# Altium footprint library AltiumDesigner.PcbLib: 151 footprints (part 9 of 10)
Each footprint in its own frame and in the unit in brackets; x right, y up, seen from the top. Pads: shape width x height; smd on the part's side, far side on the other; paste and mask are expansions set on the pad; w line width, h text height; cw(c..) or ccw(c..) is an arc to the next point about the centre after c.
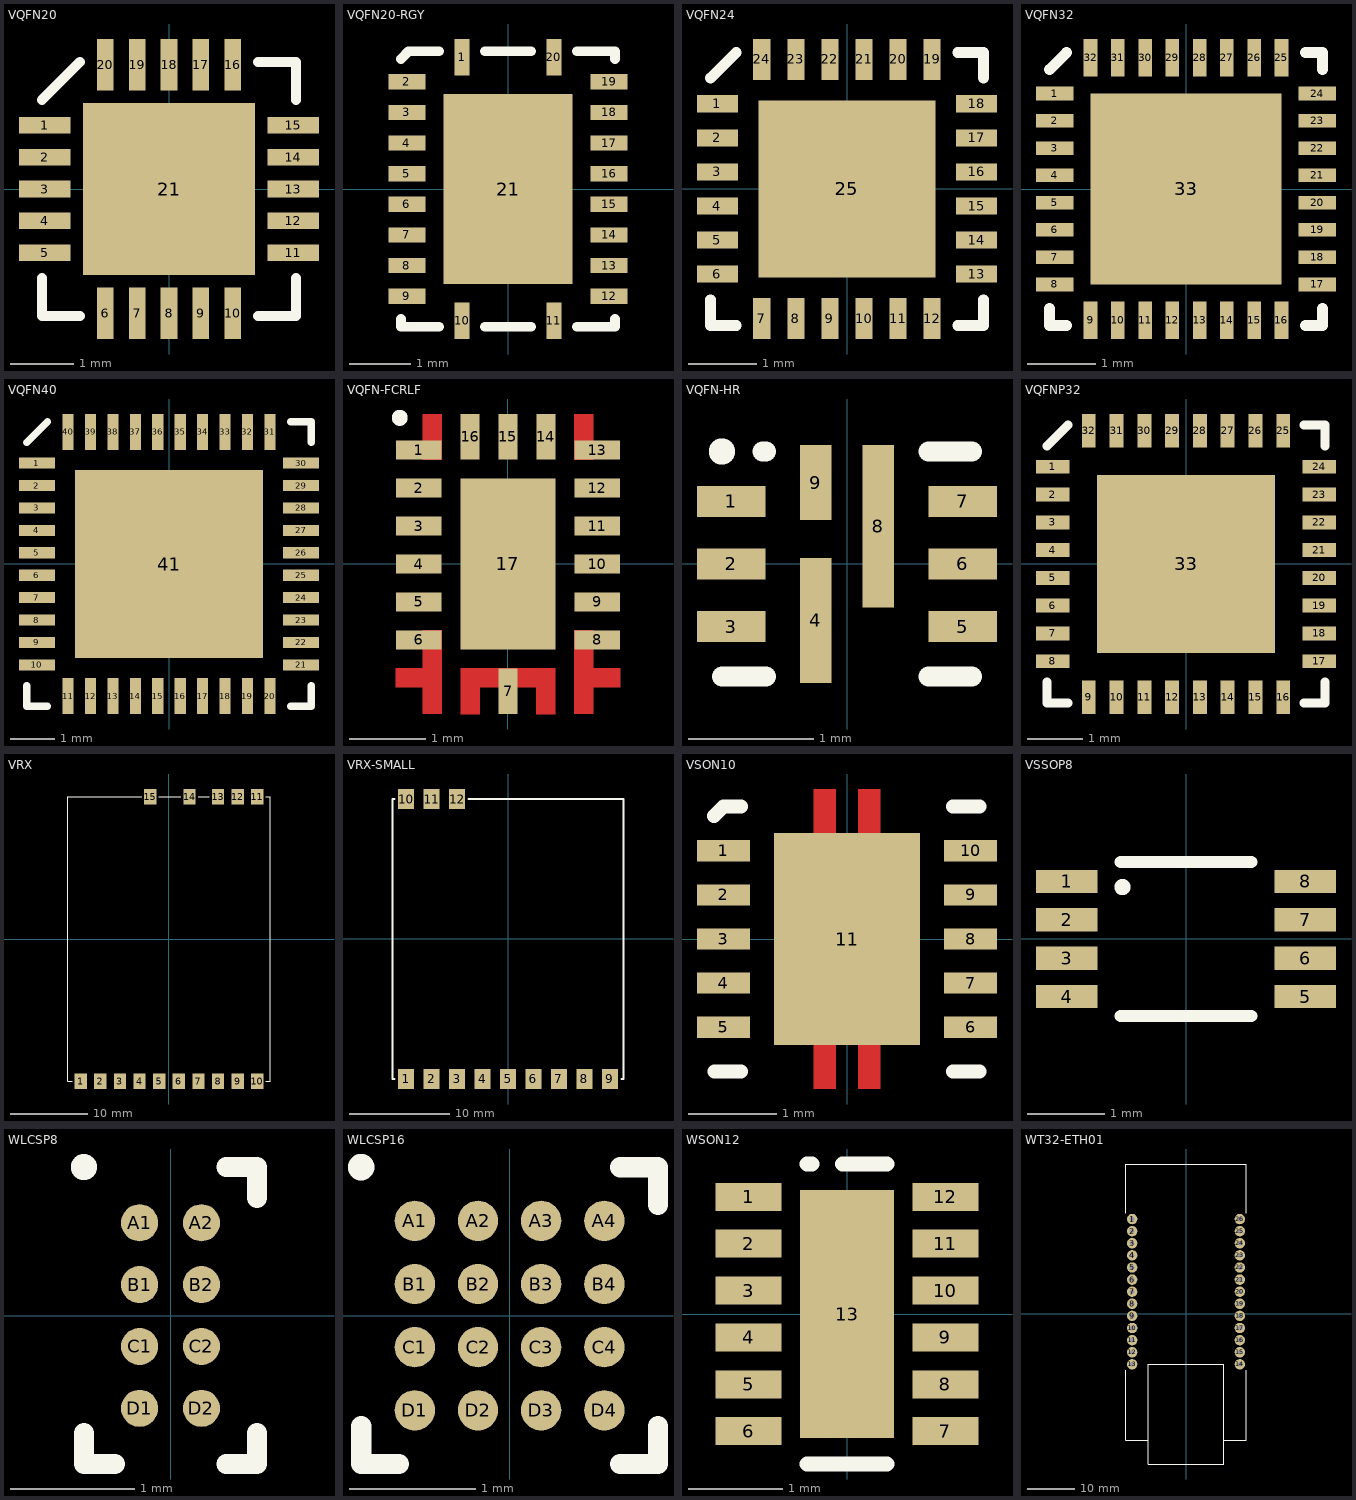
[diagram p8: the footprints below, top view; thin cyan lines are the x and y axes]

## VQFN20 [mm]
pads (21):
  rect 0.81x0.26 smd: 1(-1.955,1) 2(-1.955,0.5) 3(-1.955,0) 4(-1.955,-0.5) 5(-1.955,-1) 11(1.955,-1) 12(1.955,-0.5) 13(1.955,0) 14(1.955,0.5) 15(1.955,1)
  rect 0.26x0.81 smd: 6(-1,-1.955) 7(-0.5,-1.955) 8(0,-1.955) 9(0.5,-1.955) 10(1,-1.955) 16(1,1.955) 17(0.5,1.955) 18(0,1.955) 19(-0.5,1.955) 20(-1,1.955)
  rect 2.7x2.7 smd paste-2: 21(0,0)
Top Overlay:
  lines w0.16: -2,-1.4 -2,-2 -1.4,-2 ; -2,1.4 -1.4,2 ; 1.4,-2 2,-2 2,-1.4 ; 1.4,2 2,2 2,1.4
Top Paste:
  region: -1.09,1.09 -0.13,1.09 -0.13,0.13 -1.09,0.13
  region: 0.13,1.09 1.09,1.09 1.09,0.13 0.13,0.13
  region: 0.13,-0.13 1.09,-0.13 1.09,-1.09 0.13,-1.09
  region: -1.09,-0.13 -0.13,-0.13 -0.13,-1.09 -1.09,-1.09

## VQFN20-RGY [mm]
pads (21):
  rect 0.25x0.6 smd: 1(-0.75,2.15) 10(-0.75,-2.15) 11(0.75,-2.15) 20(0.75,2.15)
  rect 0.6x0.25 smd: 2(-1.65,1.75) 3(-1.65,1.25) 4(-1.65,0.75) 5(-1.65,0.25) 6(-1.65,-0.25) 7(-1.65,-0.75) 8(-1.65,-1.25) 9(-1.65,-1.75) 12(1.65,-1.75) 13(1.65,-1.25) 14(1.65,-0.75) 15(1.65,-0.25) 16(1.65,0.25) 17(1.65,0.75) 18(1.65,1.25) 19(1.65,1.75)
  rect 2.1x3.1 smd paste-2: 21(0,0)
Top Overlay:
  lines w0.16: -1.75,-2.125 -1.75,-2.25 -1.125,-2.25 ; -1.75,2.125 -1.625,2.25 -1.125,2.25 ; -0.375,-2.25 0.375,-2.25 ; -0.375,2.25 0.375,2.25 ; 1.125,-2.25 1.75,-2.25 1.75,-2.125 ; 1.125,2.25 1.75,2.25 1.75,2.125
Top Paste:
  region: 0.125,1.25 0.875,1.25 0.875,0.25 0.125,0.25
  region: -0.875,-0.25 -0.125,-0.25 -0.125,-1.25 -0.875,-1.25
  region: -0.875,1.25 -0.125,1.25 -0.125,0.25 -0.875,0.25
  region: 0.125,-0.25 0.875,-0.25 0.875,-1.25 0.125,-1.25

## VQFN24 [mm]
pads (25):
  rect 0.6x0.25 smd: 1(-1.9,1.25) 2(-1.9,0.75) 3(-1.9,0.25) 4(-1.9,-0.25) 5(-1.9,-0.75) 6(-1.9,-1.25) 13(1.9,-1.25) 14(1.9,-0.75) 15(1.9,-0.25) 16(1.9,0.25) 17(1.9,0.75) 18(1.9,1.25)
  rect 0.25x0.6 smd: 7(-1.25,-1.9) 8(-0.75,-1.9) 9(-0.25,-1.9) 10(0.25,-1.9) 11(0.75,-1.9) 12(1.25,-1.9) 19(1.25,1.9) 20(0.75,1.9) 21(0.25,1.9) 22(-0.25,1.9) 23(-0.75,1.9) 24(-1.25,1.9)
  rect 2.6x2.6 smd paste-5: 25(0,0)
Top Overlay:
  lines w0.16: -2,-1.625 -2,-2 -1.625,-2 ; -2,1.625 -1.625,2 ; 1.625,-2 2,-2 2,-1.625 ; 1.625,2 2,2 2,1.625
Top Paste:
  region: 0.2,1.2 1.2,1.2 1.2,0.2 0.2,0.2
  region: 0.2,-0.2 1.2,-0.2 1.2,-1.2 0.2,-1.2
  region: -1.2,-0.2 -0.2,-0.2 -0.2,-1.2 -1.2,-1.2
  region: -1.2,1.2 -0.2,1.2 -0.2,0.2 -1.2,0.2

## VQFN32 [mm]
pads (33):
  rect 0.55x0.2 smd: 1(-1.925,1.4) 2(-1.925,1) 3(-1.925,0.6) 4(-1.925,0.2) 5(-1.925,-0.2) 6(-1.925,-0.6) 7(-1.925,-1) 8(-1.925,-1.4) 17(1.925,-1.4) 18(1.925,-1) 19(1.925,-0.6) 20(1.925,-0.2) 21(1.925,0.2) 22(1.925,0.6) 23(1.925,1) 24(1.925,1.4)
  rect 0.2x0.55 smd: 9(-1.4,-1.925) 10(-1,-1.925) 11(-0.6,-1.925) 12(-0.2,-1.925) 13(0.2,-1.925) 14(0.6,-1.925) 15(1,-1.925) 16(1.4,-1.925) 25(1.4,1.925) 26(1,1.925) 27(0.6,1.925) 28(0.2,1.925) 29(-0.2,1.925) 30(-0.6,1.925) 31(-1,1.925) 32(-1.4,1.925)
  rect 2.8x2.8 smd paste-2: 33(0,0)
Top Overlay:
  lines w0.16: -2,-1.75 -2,-2 -1.75,-2 ; -2,1.75 -1.75,2 ; 1.75,-2 2,-2 2,-1.75 ; 1.75,2 2,2 2,1.75
Top Paste:
  region: 0.196,1.2 1.196,1.2 1.196,0.2 0.196,0.2
  region: 0.196,-0.2 1.196,-0.2 1.196,-1.2 0.196,-1.2
  region: -1.204,-0.2 -0.204,-0.2 -0.204,-1.2 -1.204,-1.2
  region: -1.204,1.2 -0.204,1.2 -0.204,0.2 -1.204,0.2

## VQFN40 [mm]
pads (41):
  rect 0.8x0.25 smd paste+0: 1(-2.95,2.25) 2(-2.95,1.75) 3(-2.95,1.25) 4(-2.95,0.75) 5(-2.95,0.25) 6(-2.95,-0.25) 7(-2.95,-0.75) 8(-2.95,-1.25) 9(-2.95,-1.75) 10(-2.95,-2.25) 21(2.943,-2.25) 22(2.943,-1.75) 23(2.943,-1.25) 24(2.943,-0.75) 25(2.943,-0.25) 26(2.943,0.25) 27(2.943,0.75) 28(2.943,1.25) 29(2.943,1.75) 30(2.943,2.25)
  rect 0.25x0.8 smd paste+0: 11(-2.254,-2.946) 12(-1.754,-2.946) 13(-1.254,-2.946) 14(-0.754,-2.946) 15(-0.254,-2.946) 16(0.246,-2.946) 17(0.746,-2.946) 18(1.246,-2.946) 19(1.746,-2.946) 20(2.246,-2.946) 31(2.246,2.946) 32(1.746,2.946) 33(1.246,2.946) 34(0.746,2.946) 35(0.246,2.946) 36(-0.254,2.946) 37(-0.754,2.946) 38(-1.254,2.946) 39(-1.754,2.946) 40(-2.254,2.946)
  rect 4.2x4.2 smd paste-2.121: 41(-0.004,0)
Top Overlay:
  lines w0.16: -3.179,-2.71 -3.179,-3.175 -2.713,-3.175 ; -3.179,2.71 -2.713,3.175 ; 2.706,-3.175 3.171,-3.175 3.171,-2.71 ; 2.706,3.175 3.171,3.175 3.171,2.71
Top Paste:
  region: -1.907,1.9 -0.907,1.9 -0.907,0.9 -1.907,0.9
  region: -1.907,0.5 -0.907,0.5 -0.907,-0.5 -1.907,-0.5
  region: -0.507,0.5 0.493,0.5 0.493,-0.5 -0.507,-0.5
  region: -0.507,1.9 0.493,1.9 0.493,0.9 -0.507,0.9
  region: 0.893,0.5 1.893,0.5 1.893,-0.5 0.893,-0.5
  region: 0.893,1.9 1.893,1.9 1.893,0.9 0.893,0.9
  region: -1.907,-0.9 -0.907,-0.9 -0.907,-1.9 -1.907,-1.9
  region: -0.507,-0.9 0.493,-0.9 0.493,-1.9 -0.507,-1.9
  region: 0.893,-0.9 1.893,-0.9 1.893,-1.9 0.893,-1.9

## VQFN-FCRLF [mm]
pads (17):
  rect 0.6x0.25 smd: 1(-1.175,1.5) 2(-1.175,1) 3(-1.175,0.5) 4(-1.175,0) 5(-1.175,-0.5) 6(-1.175,-1) 8(1.175,-1) 9(1.175,-0.5) 10(1.175,0) 11(1.175,0.5) 12(1.175,1) 13(1.175,1.5)
  rect 0.25x0.6 smd: 7(0,-1.675) 14(0.5,1.675) 15(0,1.675) 16(-0.5,1.675)
  rect 1.25x2.25 smd paste-1: 17(0,0)
Top Layer:
  region: 1.125,-0.875 0.875,-0.875 0.875,-1.975 1.125,-1.975 1.125,-1.625 1.475,-1.625 1.475,-1.375 1.125,-1.375
  region: -1.125,1.975 -0.875,1.975 -0.875,1.375 -1.125,1.375
  region: -1.125,-0.875 -1.125,-1.375 -1.475,-1.375 -1.475,-1.625 -1.125,-1.625 -1.125,-1.975 -0.875,-1.975 -0.875,-0.875
  region: 0.625,-1.975 0.375,-1.975 0.375,-1.625 -0.375,-1.625 -0.375,-1.975 -0.625,-1.975 -0.625,-1.375 0.625,-1.375
  region: 0.875,1.975 1.125,1.975 1.125,1.375 0.875,1.375
Top Overlay:
  circle w0.16: c-1.425,1.925 r0.025
Top Paste:
  region: 0.875,-1.975 1.125,-1.975 1.125,-1.625 1.475,-1.625 1.475,-1.375 0.875,-1.375
  region: -1.475,-1.375 -1.475,-1.625 -1.125,-1.625 -1.125,-1.975 -0.875,-1.975 -0.875,-1.375
  region: -0.625,-1.375 -0.375,-1.375 -0.375,-1.975 -0.625,-1.975
  region: 0.375,-1.375 0.625,-1.375 0.625,-1.975 0.375,-1.975
  region: -0.35,0.625 0.35,0.625 0.35,-0.625 -0.35,-0.625

## VQFN-HR [mm]
pads (9):
  rect 0.55x0.25 smd: 1(-0.925,0.5) 2(-0.925,0) 3(-0.925,-0.5) 5(0.925,-0.5) 6(0.925,0) 7(0.925,0.5)
  rect 0.25x1 smd: 4(-0.25,-0.45)
  rect 0.25x1.3 smd: 8(0.25,0.3)
  rect 0.25x0.6 smd: 9(-0.25,0.65)
Top Overlay:
  circle w0.16: c-1,0.9 r0.025
  lines w0.16: -1,-0.9 -0.65,-0.9 ; -0.675,0.9 -0.65,0.9 ; 0.65,-0.9 1,-0.9 ; 0.65,0.9 1,0.9

## VQFNP32 [mm]
pads (33):
  rect 0.6x0.25 smd: 1(-2.4,1.75) 2(-2.4,1.25) 3(-2.4,0.75) 4(-2.4,0.25) 5(-2.4,-0.25) 6(-2.4,-0.75) 7(-2.4,-1.25) 8(-2.4,-1.75) 17(2.4,-1.75) 18(2.4,-1.25) 19(2.4,-0.75) 20(2.4,-0.25) 21(2.4,0.25) 22(2.4,0.75) 23(2.4,1.25) 24(2.4,1.75)
  rect 0.25x0.6 smd: 9(-1.75,-2.4) 10(-1.25,-2.4) 11(-0.75,-2.4) 12(-0.25,-2.4) 13(0.25,-2.4) 14(0.75,-2.4) 15(1.25,-2.4) 16(1.75,-2.4) 25(1.75,2.4) 26(1.25,2.4) 27(0.75,2.4) 28(0.25,2.4) 29(-0.25,2.4) 30(-0.75,2.4) 31(-1.25,2.4) 32(-1.75,2.4)
  rect 3.2x3.2 smd paste-2: 33(0,0)
Top Overlay:
  lines w0.16: -2.5,-2.125 -2.5,-2.5 -2.125,-2.5 ; -2.5,2.125 -2.125,2.5 ; 2.125,-2.5 2.5,-2.5 2.5,-2.125 ; 2.125,2.5 2.5,2.5 2.5,2.125
Top Paste:
  region: 0.196,1.2 1.196,1.2 1.196,0.2 0.196,0.2
  region: 0.196,-0.2 1.196,-0.2 1.196,-1.2 0.196,-1.2
  region: -1.204,-0.2 -0.204,-0.2 -0.204,-1.2 -1.204,-1.2
  region: -1.204,1.2 -0.204,1.2 -0.204,0.2 -1.204,0.2

## VRX [mm]
pads (15):
  rect 1.6x2 smd: 1(-11.475,-18.5) 2(-8.925,-18.5) 3(-6.375,-18.5) 4(-3.825,-18.5) 5(-1.275,-18.5) 6(1.275,-18.5) 7(3.825,-18.5) 8(6.375,-18.5) 9(8.925,-18.5) 10(11.475,-18.5) 11(11.475,18.5) 12(8.925,18.5) 13(6.375,18.5) 14(2.675,18.5) 15(-2.425,18.5)
Top Overlay:
  lines w0.16: -12.6,-18.5 -13.15,-18.5 -13.15,18.5 -3.55,18.5 ; -1.3,18.5 1.55,18.5 ; 3.8,18.5 5.25,18.5 ; 12.6,-18.5 13.15,-18.5 13.15,18.5 12.6,18.5

## VRX-SMALL [mm]
pads (12):
  rect 1.6x2 smd: 1(-10.2,-14) 2(-7.65,-14) 3(-5.1,-14) 4(-2.55,-14) 5(0,-14) 6(2.55,-14) 7(5.1,-14) 8(7.65,-14) 9(10.2,-14) 10(-10.2,14) 11(-7.65,14) 12(-5.1,14)
Top Overlay:
  lines w0.16: -11.325,-14 -11.55,-14 -11.55,14 -11.325,14 ; -3.975,14 11.55,14 11.55,-14 11.325,-14

## VSON10 [mm]
pads (11):
  rect 0.6x0.24 smd: 1(-1.4,1) 2(-1.4,0.5) 3(-1.4,0) 4(-1.4,-0.5) 5(-1.4,-1) 6(1.4,-1) 7(1.4,-0.5) 8(1.4,0) 9(1.4,0.5) 10(1.4,1)
  rect 1.65x2.4 smd paste-1: 11(0,0)
Top Layer:
  region: -0.125,-1.7 -0.125,-1.2 0.125,-1.2 0.125,-1.7 0.375,-1.7 0.375,-1.2 -0.375,-1.2 -0.375,-1.7
  region: 0.125,1.7 0.125,1.2 -0.125,1.2 -0.125,1.7 -0.375,1.7 -0.375,1.2 0.375,1.2 0.375,1.7
Top Overlay:
  lines w0.16: -1.506,1.394 -1.4,1.5 -1.2,1.5 ; -1.5,-1.5 -1.2,-1.5 ; 1.2,-1.5 1.5,-1.5 ; 1.2,1.5 1.5,1.5
Top Paste:
  region: -0.475,0.75 0.475,0.75 0.475,-0.75 -0.475,-0.75

## VSSOP8 [mm]
pads (8):
  rect 0.8x0.3 smd: 1(-1.55,0.75) 2(-1.55,0.25) 3(-1.55,-0.25) 4(-1.55,-0.75) 5(1.55,-0.75) 6(1.55,-0.25) 7(1.55,0.25) 8(1.55,0.75)
Top Overlay:
  circle w0.16: c-0.825,0.675 r0.025
  lines w0.16: -0.85,-1 0.85,-1 ; -0.85,1 0.85,1

## WLCSP8 [mm]
pads (8):
  round 0.3 smd: A1(-0.25,0.75) A2(0.25,0.75) B1(-0.25,0.25) B2(0.25,0.25) C1(-0.25,-0.25) C2(0.25,-0.25) D1(-0.25,-0.75) D2(0.25,-0.75)
Top Overlay:
  circle w0.16: c-0.7,1.2 r0.025
  lines w0.16: -0.7,-0.95 -0.7,-1.2 -0.45,-1.2 ; 0.45,-1.2 0.7,-1.2 0.7,-0.95 ; 0.45,1.2 0.7,1.2 0.7,0.95

## WLCSP16 [mm]
pads (16):
  round 0.32 smd: A1(-0.75,0.75) A2(-0.25,0.75) A3(0.25,0.75) A4(0.75,0.75) B1(-0.75,0.25) B2(-0.25,0.25) B3(0.25,0.25) B4(0.75,0.25) C1(-0.75,-0.25) C2(-0.25,-0.25) C3(0.25,-0.25) C4(0.75,-0.25) D1(-0.75,-0.75) D2(-0.25,-0.75) D3(0.25,-0.75) D4(0.75,-0.75)
Top Overlay:
  circle w0.16: c-1.175,1.175 r0.025
  lines w0.16: -1.175,-0.875 -1.175,-1.175 -0.875,-1.175 ; 0.875,-1.175 1.175,-1.175 1.175,-0.875 ; 0.875,1.175 1.175,1.175 1.175,0.875
Top Solder:
  circle w0: c-0.75,0.25 r0.15
  circle w0: c-0.25,0.25 r0.15
  circle w0: c-0.25,0.75 r0.15
  circle w0: c-0.75,0.75 r0.15
  circle w0: c0.75,-0.75 r0.15
  circle w0: c0.25,-0.75 r0.15
  circle w0: c0.75,0.75 r0.15
  circle w0: c0.25,-0.25 r0.15
  circle w0: c0.75,0.25 r0.15
  circle w0: c-0.25,-0.25 r0.15
  circle w0: c0.25,0.25 r0.15
  circle w0: c-0.25,-0.75 r0.15
  circle w0: c0.75,-0.25 r0.15
  circle w0: c-0.75,-0.75 r0.15
  circle w0: c-0.75,-0.25 r0.15
  circle w0: c0.25,0.75 r0.15

## WSON12 [mm]
pads (13):
  rect 0.7x0.3 smd: 1(-1.05,1.25) 2(-1.05,0.75) 3(-1.05,0.25) 4(-1.05,-0.25) 5(-1.05,-0.75) 6(-1.05,-1.25) 7(1.05,-1.25) 8(1.05,-0.75) 9(1.05,-0.25) 10(1.05,0.25) 11(1.05,0.75) 12(1.05,1.25)
  rect 1x2.65 smd: 13(0,0)
Top Overlay:
  lines w0.16: -0.425,-1.6 0.425,-1.6 ; -0.425,1.6 -0.375,1.6 ; -0.05,1.6 0.425,1.6

## WT32-ETH01 [mm]
pads (26):
  round 2.2 hole 1: 1(-11.35,20) 2(-11.35,17.45) 3(-11.35,14.9) 4(-11.35,12.35) 5(-11.35,9.8) 6(-11.35,7.25) 7(-11.35,4.7) 8(-11.35,2.15) 9(-11.35,-0.4) 10(-11.35,-2.95) 11(-11.35,-5.5) 12(-11.35,-8.05) 13(-11.35,-10.6) 14(11.35,-10.6) 15(11.35,-8.05) 16(11.35,-5.5) 17(11.35,-2.95) 18(11.35,-0.4) 19(11.35,2.15) 20(11.35,4.7) 21(11.35,7.25) 22(11.35,9.8) 23(11.35,12.35) 24(11.35,14.9) 25(11.35,17.45) 26(11.35,20)
Top Overlay:
  lines w0.16: -12.65,-11.875 -12.65,-26.6 -8,-26.6 ; -12.65,21.25 -12.65,31.6 12.65,31.6 12.65,21.25 ; 8,-26.6 12.65,-26.6 12.65,-11.875 ; -8,-31.6 8,-31.6 8,-10.6 -8,-10.6 -8,-31.6